# Altium footprint library Movandi-14.PcbLib: 2 footprints
Each footprint in its own frame and in the unit in brackets; x right, y up, seen from the top. Pads: shape width x height; smd on the part's side, far side on the other; paste and mask are expansions set on the pad; w line width, h text height; cw(c..) or ccw(c..) is an arc to the next point about the centre after c.
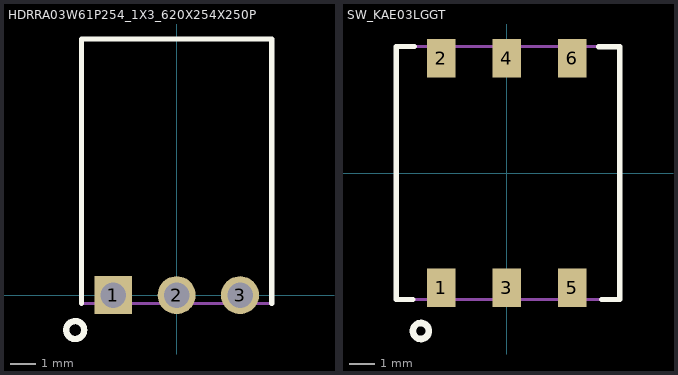
[diagram p0: the footprints below, top view; thin cyan lines are the x and y axes]

## HDRRA03W61P254_1X3_620X254X250P [mm]
height 2.5
pads (3):
  rect 1.52x1.52 hole 1.02 unplated: 1(-2.54,0)
  round 1.52 hole 1.02 unplated: 2(0,0) 3(2.54,0)
Top Overlay:
  circle w0.254: c-4.064,-1.397 r0.359
  lines w0.203: -3.811,-0.33 -3.811,10.257 ; -3.806,10.262 3.805,10.262 ; 3.81,-0.327 3.81,10.257
Mechanical 1:
  text "'.Designator'" at -0.002,0.011 h1.02
Mechanical 15:
  circle w0.254: c-2.54,0 r0.359
  lines w0.127: -3.811,10.257 -3.811,-0.33 3.806,-0.33 ; -3.806,10.262 3.805,10.262 ; 3.81,-0.327 3.81,10.257
3D body: height 2.74, standoff -3.17, extent -3.81,-0.33 3.81,10.262

## SW_KAE03LGGT [mm]
height 4.45
pads (6):
  rect 1.1x1.5 smd: 1(-2.54,-4.45) 2(-2.54,4.45) 3(0,-4.45) 4(0,4.45) 5(2.54,-4.45) 6(2.54,4.45)
Top Overlay:
  circle w0.254: c-3.327,-6.121 r0.31
  lines w0.203: -3.632,-4.902 -4.272,-4.902 -4.279,-4.895 -4.279,4.905 -3.584,4.905 ; 3.556,4.902 4.378,4.902 4.381,4.899 4.381,-4.896 3.688,-4.896
Mechanical 1:
  text "'.Designator'" at 0,0.011 h1.02
Mechanical 15:
  circle w0.254: c-2.54,-4.369 r0.31
  lines w0.127: 3.556,4.902 4.378,4.902 4.381,4.899 4.381,-4.896 3.688,-4.896 -4.278,-4.896 ; 3.556,4.905 -4.279,4.905 -4.279,-4.895 ; -4.279,-4.895 -4.278,-4.896
3D body: height 4.45, standoff 0, extent -4.279,-4.895 4.381,4.905